# EAGLE library part USBMICRO-10118193-0001LF (library awqua_eagle_library)
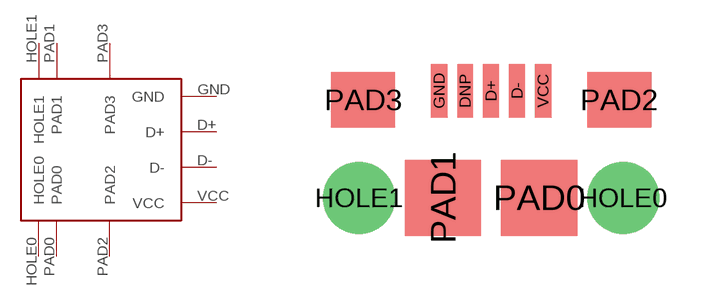
[diagram p20: symbol with the pads of USBMICRO-10118193-0001LF; footprint USBMICRO-10118193-0001LF]

Designator prefix -

## USBMICRO-10118193-0001LF  [USBMICRO-10118193-0001LF]
D+  D+
D-  D-
GND  GND
HOLE0  HOLE0
HOLE1  HOLE1
PAD0  PAD0
PAD1  PAD1
PAD2  PAD2
PAD3  PAD3
VCC  VCC

## Footprint USBMICRO-10118193-0001LF (pad centres in mm)
smd 0.4 x 1.35: D+ 0,4.125; D- 0.65,4.125; DNP -0.65,4.125; GND -1.3,4.125; VCC 1.3,4.125
drill 1.2 pad 1.6: HOLE0 3.3,1.45; HOLE1 -3.3,1.45
smd 1.9 x 1.9: PAD0 1.2,1.45; PAD1 -1.2,1.45
smd 1.6 x 1.4: PAD2 3.2,3.9; PAD3 -3.2,3.9